# Altium schematic symbol library TPDxF003.SchLib: 3 symbols
Pins are listed as number, name and electrical type; pins without a type are passive.

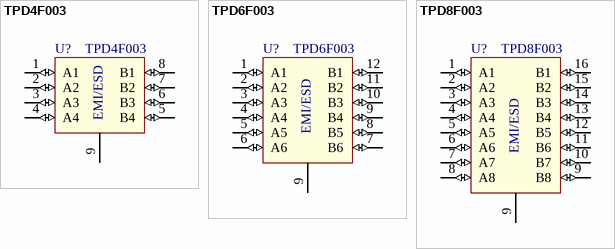
[diagram p0: symbols TPD4F003 to TPD8F003]

## TPD4F003
designator U?
4-channel EMI filter with Integrated ESD protection; value: TPD4F003DQDR
pins: 1 A1 (io), 2 A2 (io), 3 A3 (io), 4 A4 (io), 5 B4 (io), 6 B3 (io), 7 B2 (io), 8 B1 (io), 9 PAD (power)
text: EMI/ESD

## TPD6F003
designator U?
6-channel EMI filter with Integrated ESD protection; value: TPD6F003DQDR
pins: 1 A1 (io), 2 A2 (io), 3 A3 (io), 4 A4 (io), 5 A5 (io), 6 A6 (io), 7 B6 (io), 8 B5 (io), 9 B4 (io), 9 PAD (power), 10 B3 (io), 11 B2 (io), 12 B1 (io)
text: EMI/ESD

## TPD8F003
designator U?
8-channel EMI filter with Integrated ESD protection; value: TPD8F003DQDR
pins: 1 A1 (io), 2 A2 (io), 3 A3 (io), 4 A4 (io), 5 A5 (io), 6 A6 (io), 7 A7 (io), 8 A8 (io), 9 PAD (power), 9 B8 (io), 10 B7 (io), 11 B6 (io), 12 B5 (io), 13 B4 (io), 14 B3 (io), 15 B2 (io), 16 B1 (io)
text: EMI/ESD